# EAGLE library part 3595 (library 3595)
Position Sensor Development Tools Adafruit APDS9960 Sensor Source: Datasheet <https://cdn-learn.adafruit.com/downloads/pdf/adafruit-apds9960-breakout.pdf>
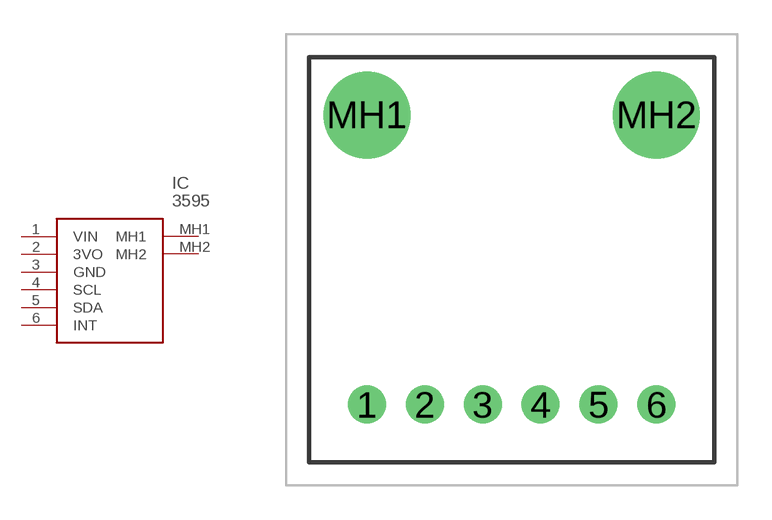
[diagram p0: symbol with the pads of 3595; footprint 3595]

Designator prefix IC

## 3595 (Arrow_Part_Number: 3595; Arrow_Price-Stock: https://www.arrow.com/en/products/3595/adafruit-industries; Description: Position Sensor Development Tools Adafruit APDS9960 Sensor; Height: 3mm; Manufacturer_Name: Adafruit; Manufacturer_Part_Number: 3595; Mouser_Part_Number: 485-3595; Mouser_Price-Stock: https://www.mouser.co.uk/ProductDetail/Adafruit/3595?qs=0lQeLiL1qyZKgCluEGGJeA%3D%3D)  [3595]
1  VIN
2  3VO
3  GND
4  SCL
5  SDA
6  INT
MH1  MH1
MH2  MH2

## Footprint 3595 (pad centres in mm)
3595-2
drill 1.11 pad 1.665: 1 0,0; 2 2.54,0; 3 5.08,0; 4 7.62,0; 5 10.16,0; 6 12.7,0
drill 2.54 pad 3.81: MH1 0,12.7; MH2 12.7,12.7